# Altium schematic symbol library Linear stabilizers.SchLib: 2 symbols
Pins are listed as number, name and electrical type; pins without a type are passive.

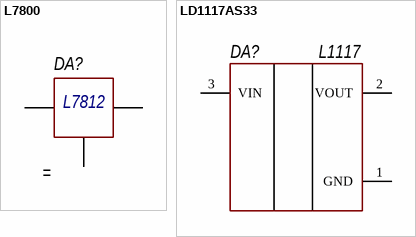
[diagram p0: symbols L7800 to LD1117AS33]

## L7800
designator DA?
Model: *; Manufcacture: *; HelpURL: *; Case: *; Value: *
footprint TO-220
pins: 1, 2, 3
text: L7812

## LD1117AS33
designator DA?, comment L1117
Model: *; Manufcacture: *; HelpURL: *; Case: *; Value: *
footprint Sot-223
footprint TO220 (Generic TO-220 case, stay variant)
pins: 1 GND, 2 VOUT, 3 VIN